# Altium footprint library DCJ235-05-A-K1-A.PcbLib: 1 footprints
Each footprint in its own frame and in the unit in brackets; x right, y up, seen from the top. Pads: shape width x height; smd on the part's side, far side on the other; paste and mask are expansions set on the pad; w line width, h text height; cw(c..) or ccw(c..) is an arc to the next point about the centre after c.
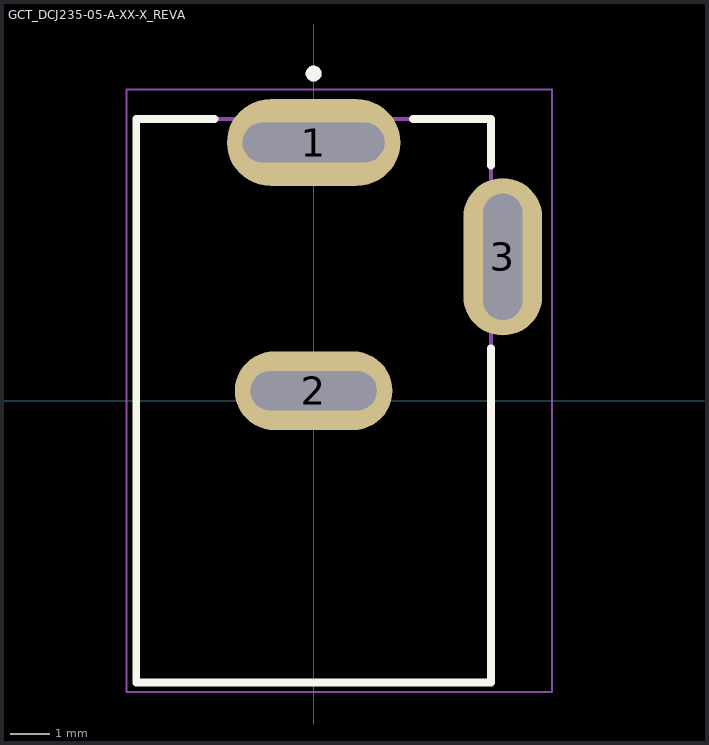
[diagram p0: the footprint, top view; thin cyan lines are the x and y axes]

## GCT_DCJ235-05-A-XX-X_REVA [mm]
pads (3):
  oval 4.4x2.2 hole 1 slot 3.6 at 0 deg: 1(0,6.55)
  oval 4x2 hole 1 slot 3.2 at 0 deg: 2(0,0.25)
  oval 2x4 hole 1 slot 3.2 at 90 deg: 3(4.8,3.65)
Top Overlay:
  circle w0.2: c0,8.3 r0.1
  lines w0.2: -2.52,7.15 -4.5,7.15 -4.5,-7.15 4.5,-7.15 4.5,1.33 ; 2.52,7.15 4.5,7.15 4.5,5.97
Mechanical 13:
  circle w0.2: c0,8.3 r0.1
  lines w0.1: -4.5,-7.15 -4.5,7.15 4.5,7.15 4.5,-7.15 -4.5,-7.15
Mechanical 15:
  lines w0.05: -4.75,-7.4 -4.75,7.9 6.05,7.9 6.05,-7.4 -4.75,-7.4